# EAGLE library part 74HC4514 (library SHC)
The 74HC/HCT4514 are 4-to-16 line decoders/demultiplexers having four binary weighted address inputs (A0 to A3), with latches, a latch enable input (LE), and an active LOW enable input (E). The 16 outputs (Q0 to Q15) are mutually exclusive active HIGH. When LE is HIGH, the selected output is determined by the data on An. When LE goes LOW, the last data present at An are stored in the latches and the outputs remain stable. When E is LOW, the selected output, determined by the contents of the latch, is HIGH. At E HIGH, all outputs are LOW. The enable input (E) does not affect the state of the latch. When the ?4514? is used as a demultiplexer, E is the data input and A0 to A3 are the address inputs.
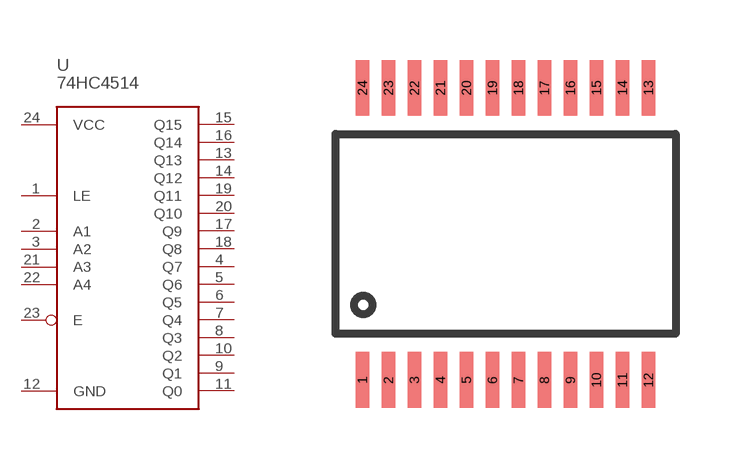
[diagram p13: symbol with the pads of SSOP-24; footprint SSOP-24]

Designator prefix -

## 74HC4514  [SSOP-24]
1  LE
2  A1
3  A2
4  Q7
5  Q6
6  Q5
7  Q4
8  Q3
9  Q1
10  Q2
11  Q0
12  GND
13  Q13
14  Q12
15  Q15
16  Q14
17  Q9
18  Q8
19  Q11
20  Q10
21  A3
22  A4
23  E
24  VCC

## Footprint SSOP-24 (pad centres in mm)
smd 0.348 x 1.397: 1 -3.575,-3.656; 2 -2.925,-3.656; 3 -2.275,-3.656; 4 -1.625,-3.656; 5 -0.975,-3.656; 6 -0.325,-3.656; 7 0.325,-3.656; 8 0.975,-3.656; 9 1.625,-3.656; 10 2.275,-3.656; 11 2.925,-3.656; 12 3.575,-3.656; 13 3.575,3.656; 14 2.925,3.656; 15 2.275,3.656; 16 1.625,3.656; 17 0.975,3.656; 18 0.325,3.656; 19 -0.325,3.656; 20 -0.975,3.656; 21 -1.625,3.656; 22 -2.275,3.656; 23 -2.925,3.656; 24 -3.575,3.656